# EAGLE library part LPC32X0 (library lpc32x0)
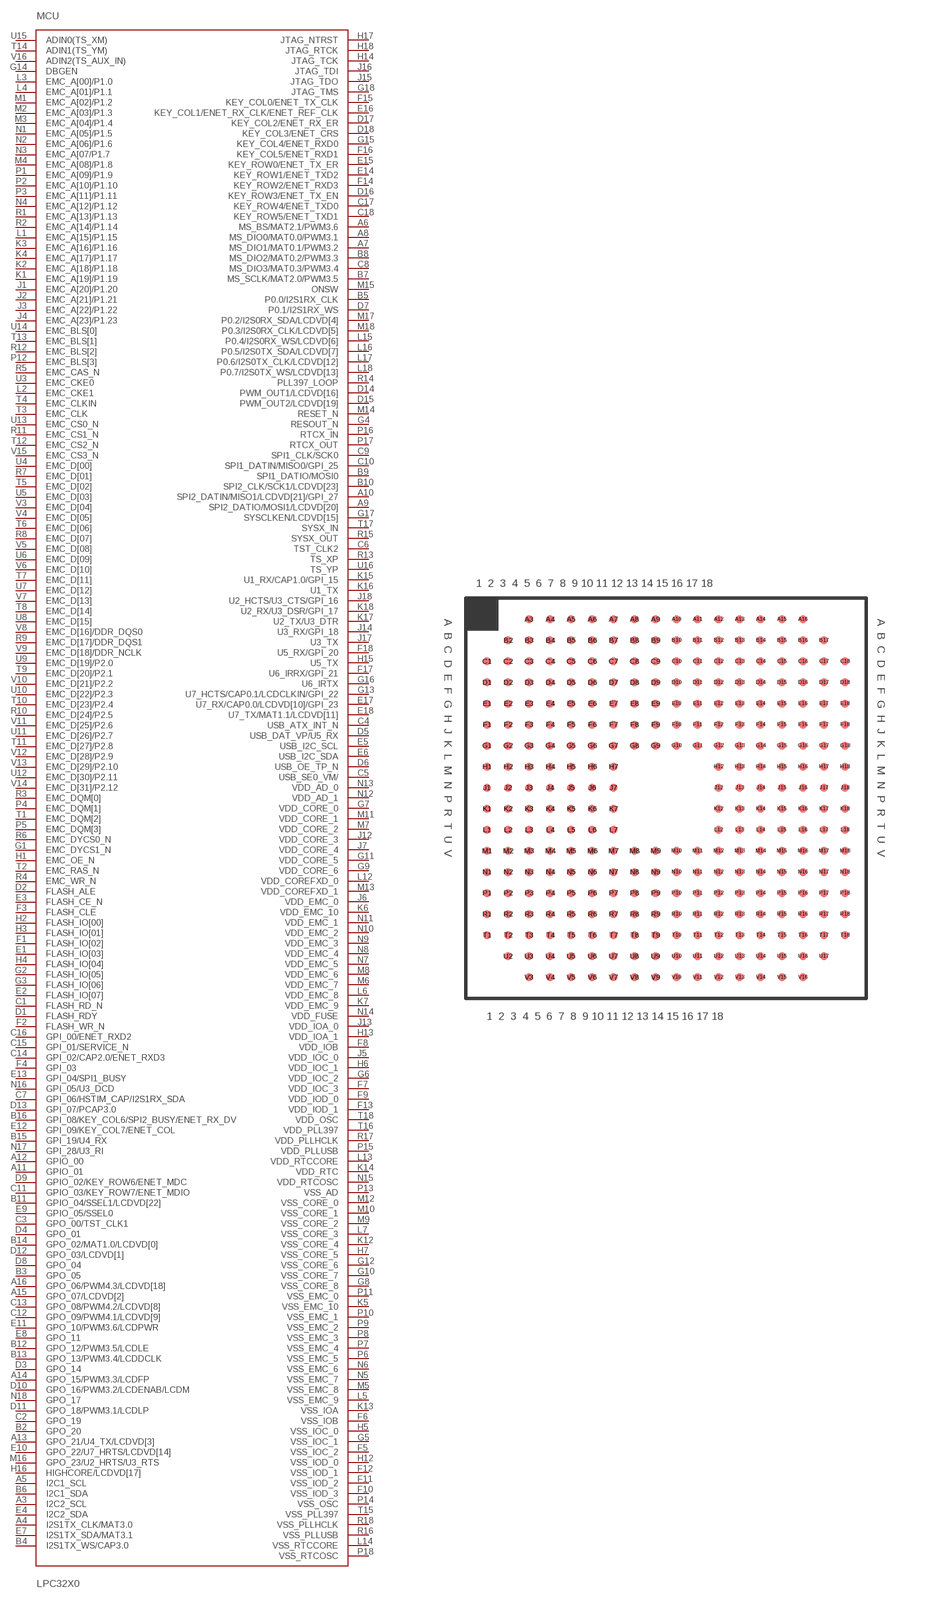
[diagram p0: symbol with the pads of SOT1048-1; footprint SOT1048-1]

Designator prefix MCU

## LPC32X0  [SOT1048-1]
A3  I2C2_SCL  nc
A4  I2S1TX_CLK/MAT3.0  nc
A5  I2C1_SCL  nc
A6  MS_BS/MAT2.1/PWM3.6  nc
A7  MS_DIO1/MAT0.1/PWM3.2  nc
A8  MS_DIO0/MAT0.0/PWM3.1  nc
A9  SPI2_DATIO/MOSI1/LCDVD[20]  nc
A10  SPI2_DATIN/MISO1/LCDVD[21]/GPI_27  nc
A11  GPIO_01  nc
A12  GPIO_00  nc
A13  GPO_21/U4_TX/LCDVD[3]  nc
A14  GPO_15/PWM3.3/LCDFP  nc
A15  GPO_07/LCDVD[2]  nc
A16  GPO_06/PWM4.3/LCDVD[18]  nc
B2  GPO_20  nc
B3  GPO_05  nc
B4  I2S1TX_WS/CAP3.0  nc
B5  P0.0/I2S1RX_CLK  nc
B6  I2C1_SDA  nc
B7  MS_SCLK/MAT2.0/PWM3.5  nc
B8  MS_DIO2/MAT0.2/PWM3.3  nc
B9  SPI1_DATIO/MOSI0  nc
B10  SPI2_CLK/SCK1/LCDVD[23]  nc
B11  GPIO_04/SSEL1/LCDVD[22]  nc
B12  GPO_12/PWM3.5/LCDLE  nc
B13  GPO_13/PWM3.4/LCDDCLK  nc
B14  GPO_02/MAT1.0/LCDVD[0]  nc
B15  GPI_19/U4_RX  nc
B16  GPI_08/KEY_COL6/SPI2_BUSY/ENET_RX_DV  nc
C1  FLASH_RD_N  nc
C2  GPO_19  nc
C3  GPO_00/TST_CLK1  nc
C4  USB_ATX_INT_N  nc
C5  USB_SE0_VM/  nc
C6  TST_CLK2  nc
C7  GPI_06/HSTIM_CAP/I2S1RX_SDA  nc
C8  MS_DIO3/MAT0.3/PWM3.4  nc
C9  SPI1_CLK/SCK0  nc
C10  SPI1_DATIN/MISO0/GPI_25  nc
C11  GPIO_03/KEY_ROW7/ENET_MDIO  nc
C12  GPO_09/PWM4.1/LCDVD[9]  nc
C13  GPO_08/PWM4.2/LCDVD[8]  nc
C14  GPI_02/CAP2.0/ENET_RXD3  nc
C15  GPI_01/SERVICE_N  nc
C16  GPI_00/ENET_RXD2  nc
C17  KEY_ROW4/ENET_TXD0  nc
C18  KEY_ROW5/ENET_TXD1  nc
D1  FLASH_RDY  nc
D2  FLASH_ALE  nc
D3  GPO_14  nc
D4  GPO_01  nc
D5  USB_DAT_VP/U5_RX  nc
D6  USB_OE_TP_N  nc
D7  P0.1/I2S1RX_WS  nc
D8  GPO_04  nc
D9  GPIO_02/KEY_ROW6/ENET_MDC  nc
D10  GPO_16/PWM3.2/LCDENAB/LCDM  nc
D11  GPO_18/PWM3.1/LCDLP  nc
D12  GPO_03/LCDVD[1]  nc
D13  GPI_07/PCAP3.0  nc
D14  PWM_OUT1/LCDVD[16]  nc
D15  PWM_OUT2/LCDVD[19]  nc
D16  KEY_ROW3/ENET_TX_EN  nc
D17  KEY_COL2/ENET_RX_ER  nc
D18  KEY_COL3/ENET_CRS  nc
E1  FLASH_IO[03]  nc
E2  FLASH_IO[07]  nc
E3  FLASH_CE_N  nc
E4  I2C2_SDA  nc
E5  USB_I2C_SCL  nc
E6  USB_I2C_SDA  nc
E7  I2S1TX_SDA/MAT3.1  nc
E8  GPO_11  nc
E9  GPIO_05/SSEL0  nc
E10  GPO_22/U7_HRTS/LCDVD[14]  nc
E11  GPO_10/PWM3.6/LCDPWR  nc
E12  GPI_09/KEY_COL7/ENET_COL  nc
E13  GPI_04/SPI1_BUSY  nc
E14  KEY_ROW1/ENET_TXD2  nc
E15  KEY_ROW0/ENET_TX_ER  nc
E16  KEY_COL1/ENET_RX_CLK/ENET_REF_CLK  nc
E17  U7_RX/CAP0.0/LCDVD[10]/GPI_23  nc
E18  U7_TX/MAT1.1/LCDVD[11]  nc
F1  FLASH_IO[02]  nc
F2  FLASH_WR_N  nc
F3  FLASH_CLE  nc
F4  GPI_03  nc
F5  VSS_IOC_2  nc
F6  VSS_IOB  nc
F7  VDD_IOC_3  nc
F8  VDD_IOB  nc
F9  VDD_IOD_0  nc
F10  VSS_IOD_3  nc
F11  VSS_IOD_2  nc
F12  VSS_IOD_1  nc
F13  VDD_IOD_1  nc
F14  KEY_ROW2/ENET_RXD3  nc
F15  KEY_COL0/ENET_TX_CLK  nc
F16  KEY_COL5/ENET_RXD1  nc
F17  U6_IRRX/GPI_21  nc
F18  U5_RX/GPI_20  nc
G1  EMC_DYCS1_N  nc
G2  FLASH_IO[05]  nc
G3  FLASH_IO[06]  nc
G4  RESOUT_N  nc
G5  VSS_IOC_1  nc
G6  VDD_IOC_2  nc
G7  VDD_CORE_0  nc
G8  VSS_CORE_8  nc
G9  VDD_CORE_6  nc
G10  VSS_CORE_7  nc
G11  VDD_CORE_5  nc
G12  VSS_CORE_6  nc
G13  U7_HCTS/CAP0.1/LCDCLKIN/GPI_22  nc
G14  DBGEN  nc
G15  KEY_COL4/ENET_RXD0  nc
G16  U6_IRTX  nc
G17  SYSCLKEN/LCDVD[15]  nc
G18  JTAG_TMS  nc
H1  EMC_OE_N  nc
H2  FLASH_IO[00]  nc
H3  FLASH_IO[01]  nc
H4  FLASH_IO[04]  nc
H5  VSS_IOC_0  nc
H6  VDD_IOC_1  nc
H7  VSS_CORE_5  nc
H12  VSS_IOD_0  nc
H13  VDD_IOA_1  nc
H14  JTAG_TCK  nc
H15  U5_TX  nc
H16  HIGHCORE/LCDVD[17]  nc
H17  JTAG_NTRST  nc
H18  JTAG_RTCK  nc
J1  EMC_A[20]/P1.20  nc
J2  EMC_A[21]/P1.21  nc
J3  EMC_A[22]/P1.22  nc
J4  EMC_A[23]/P1.23  nc
J5  VDD_IOC_0  nc
J6  VDD_EMC_0  nc
J7  VDD_CORE_4  nc
J12  VDD_CORE_3  nc
J13  VDD_IOA_0  nc
J14  U3_RX/GPI_18  nc
J15  JTAG_TDO  nc
J16  JTAG_TDI  nc
J17  U3_TX  nc
J18  U2_HCTS/U3_CTS/GPI_16  nc
K1  EMC_A[19]/P1.19  nc
K2  EMC_A[18]/P1.18  nc
K3  EMC_A[16]/P1.16  nc
K4  EMC_A[17]/P1.17  nc
K5  VSS_EMC_10  nc
K6  VDD_EMC_10  nc
K7  VDD_EMC_9  nc
K12  VSS_CORE_4  nc
K13  VSS_IOA  nc
K14  VDD_RTC  nc
K15  U1_RX/CAP1.0/GPI_15  nc
K16  U1_TX  nc
K17  U2_TX/U3_DTR  nc
K18  U2_RX/U3_DSR/GPI_17  nc
L1  EMC_A[15]/P1.15  nc
L2  EMC_CKE1  nc
L3  EMC_A[00]/P1.0  nc
L4  EMC_A[01]/P1.1  nc
L5  VSS_EMC_9  nc
L6  VDD_EMC_8  nc
L7  VSS_CORE_3  nc
L12  VDD_COREFXD_0  nc
L13  VDD_RTCCORE  nc
L14  VSS_RTCCORE  nc
L15  P0.4/I2S0RX_WS/LCDVD[6]  nc
L16  P0.5/I2S0TX_SDA/LCDVD[7]  nc
L17  P0.6/I2S0TX_CLK/LCDVD[12]  nc
L18  P0.7/I2S0TX_WS/LCDVD[13]  nc
M1  EMC_A[02]/P1.2  nc
M2  EMC_A[03]/P1.3  nc
M3  EMC_A[04]/P1.4  nc
M4  EMC_A[08]/P1.8  nc
M5  VSS_EMC_8  nc
M6  VDD_EMC_7  nc
M7  VDD_CORE_2  nc
M8  VDD_EMC_6  nc
M9  VSS_CORE_2  nc
M10  VSS_CORE_1  nc
M11  VDD_CORE_1  nc
M12  VSS_CORE_0  nc
M13  VDD_COREFXD_1  nc
M14  RESET_N  nc
M15  ONSW  nc
M16  GPO_23/U2_HRTS/U3_RTS  nc
M17  P0.2/I2S0RX_SDA/LCDVD[4]  nc
M18  P0.3/I2S0RX_CLK/LCDVD[5]  nc
N1  EMC_A[05]/P1.5  nc
N2  EMC_A[06]/P1.6  nc
N3  EMC_A[07/P1.7  nc
N4  EMC_A[12]/P1.12  nc
N5  VSS_EMC_7  nc
N6  VSS_EMC_6  nc
N7  VDD_EMC_5  nc
N8  VDD_EMC_4  nc
N9  VDD_EMC_3  nc
N10  VDD_EMC_2  nc
N11  VDD_EMC_1  nc
N12  VDD_AD_1  nc
N13  VDD_AD_0  nc
N14  VDD_FUSE  nc
N15  VDD_RTCOSC  nc
N16  GPI_05/U3_DCD  nc
N17  GPI_28/U3_RI  nc
N18  GPO_17  nc
P1  EMC_A[09]/P1.9  nc
P2  EMC_A[10]/P1.10  nc
P3  EMC_A[11]/P1.11  nc
P4  EMC_DQM[1]  nc
P5  EMC_DQM[3]  nc
P6  VSS_EMC_5  nc
P7  VSS_EMC_4  nc
P8  VSS_EMC_3  nc
P9  VSS_EMC_2  nc
P10  VSS_EMC_1  nc
P11  VSS_EMC_0  nc
P12  EMC_BLS[3]  nc
P13  VSS_AD  nc
P14  VSS_OSC  nc
P15  VDD_PLLUSB  nc
P16  RTCX_IN  nc
P17  RTCX_OUT  nc
P18  VSS_RTCOSC  nc
R1  EMC_A[13]/P1.13  nc
R2  EMC_A[14]/P1.14  nc
R3  EMC_DQM[0]  nc
R4  EMC_WR_N  nc
R5  EMC_CAS_N  nc
R6  EMC_DYCS0_N  nc
R7  EMC_D[01]  nc
R8  EMC_D[07]  nc
R9  EMC_D[17]/DDR_DQS1  nc
R10  EMC_D[24]/P2.5  nc
R11  EMC_CS1_N  nc
R12  EMC_BLS[2]  nc
R13  TS_XP  nc
R14  PLL397_LOOP  nc
R15  SYSX_OUT  nc
R16  VSS_PLLUSB  nc
R17  VDD_PLLHCLK  nc
R18  VSS_PLLHCLK  nc
T1  EMC_DQM[2]  nc
T2  EMC_RAS_N  nc
T3  EMC_CLK  nc
T4  EMC_CLKIN  nc
T5  EMC_D[02]  nc
T6  EMC_D[06]  nc
T7  EMC_D[11]  nc
T8  EMC_D[14]  nc
T9  EMC_D[20]/P2.1  nc
T10  EMC_D[23]/P2.4  nc
T11  EMC_D[27]/P2.8  nc
T12  EMC_CS2_N  nc
T13  EMC_BLS[1]  nc
T14  ADIN1(TS_YM)  nc
T15  VSS_PLL397  nc
T16  VDD_PLL397  nc
T17  SYSX_IN  nc
T18  VDD_OSC  nc
U3  EMC_CKE0  nc
U4  EMC_D[00]  nc
U5  EMC_D[03]  nc
U6  EMC_D[09]  nc
U7  EMC_D[12]  nc
U8  EMC_D[15]  nc
U9  EMC_D[19]/P2.0  nc
U10  EMC_D[22]/P2.3  nc
U11  EMC_D[26]/P2.7  nc
U12  EMC_D[30]/P2.11  nc
U13  EMC_CS0_N  nc
U14  EMC_BLS[0]  nc
U15  ADIN0(TS_XM)  nc
U16  TS_YP  nc
V3  EMC_D[04]  nc
V4  EMC_D[05]  nc
V5  EMC_D[08]  nc
V6  EMC_D[10]  nc
V7  EMC_D[13]  nc
V8  EMC_D[16]/DDR_DQS0  nc
V9  EMC_D[18]/DDR_NCLK  nc
V10  EMC_D[21]/P2.2  nc
V11  EMC_D[25]/P2.6  nc
V12  EMC_D[28]/P2.9  nc
V13  EMC_D[29]/P2.10  nc
V14  EMC_D[31]/P2.12  nc
V15  EMC_CS3_N  nc
V16  ADIN2(TS_AUX_IN)  nc

## Footprint SOT1048-1 (pad centres in mm)
smd 0.3 x 0.3: A3 -5.184,6.779; A4 -4.387,6.779; A5 -3.589,6.779; A6 -2.792,6.779; A7 -1.994,6.779; A8 -1.196,6.779; A9 -0.399,6.779; A10 0.399,6.779; A11 1.196,6.779; A12 1.994,6.779; A13 2.791,6.779; A14 3.589,6.779; A15 4.386,6.779; A16 5.184,6.779; B2 -5.982,5.982; B3 -5.184,5.982; B4 -4.387,5.982; B5 -3.589,5.982; B6 -2.792,5.982; B7 -1.994,5.982; B8 -1.196,5.982; B9 -0.399,5.982; B10 0.399,5.982; B11 1.196,5.982; B12 1.994,5.982; B13 2.791,5.982; B14 3.589,5.982; B15 4.386,5.982; B16 5.184,5.982; B17 5.982,5.982; C1 -6.779,5.184; C2 -5.982,5.184; C3 -5.184,5.184; C4 -4.387,5.184; C5 -3.589,5.184; C6 -2.792,5.184; C7 -1.994,5.184; C8 -1.196,5.184; C9 -0.399,5.184; C10 0.399,5.184; C11 1.196,5.184; C12 1.994,5.184; C13 2.791,5.184; C14 3.589,5.184; C15 4.386,5.184; C16 5.184,5.184; C17 5.982,5.184; C18 6.779,5.184; D1 -6.779,4.387; D2 -5.982,4.387; D3 -5.184,4.387; D4 -4.387,4.387; D5 -3.589,4.387; D6 -2.792,4.387; D7 -1.994,4.387; D8 -1.196,4.387; D9 -0.399,4.387; D10 0.399,4.387; D11 1.196,4.387; D12 1.994,4.387; D13 2.791,4.387; D14 3.589,4.387; D15 4.386,4.387; D16 5.184,4.387; D17 5.982,4.387; D18 6.779,4.387; E1 -6.779,3.589; E2 -5.982,3.589; E3 -5.184,3.589; E4 -4.387,3.589; E5 -3.589,3.589; E6 -2.792,3.589; E7 -1.994,3.589; E8 -1.196,3.589; E9 -0.399,3.589; E10 0.399,3.589; E11 1.196,3.589; E12 1.994,3.589; E13 2.791,3.589; E14 3.589,3.589; E15 4.386,3.589; E16 5.184,3.589; E17 5.982,3.589; E18 6.779,3.589; F1 -6.779,2.792; F2 -5.982,2.792; F3 -5.184,2.792; F4 -4.387,2.792; F5 -3.589,2.792; F6 -2.792,2.792; F7 -1.994,2.792; F8 -1.196,2.792; F9 -0.399,2.792; F10 0.399,2.792; F11 1.196,2.792; F12 1.994,2.792; F13 2.791,2.792; F14 3.589,2.792; F15 4.386,2.792; F16 5.184,2.792; F17 5.982,2.792; F18 6.779,2.792; G1 -6.779,1.994; G2 -5.982,1.994; G3 -5.184,1.994; G4 -4.387,1.994; G5 -3.589,1.994; G6 -2.792,1.994; G7 -1.994,1.994; G8 -1.196,1.994; G9 -0.399,1.994; G10 0.399,1.994; G11 1.196,1.994; G12 1.994,1.994; G13 2.791,1.994; G14 3.589,1.994; G15 4.386,1.994; G16 5.184,1.994; G17 5.982,1.994; G18 6.779,1.994; H1 -6.779,1.196; H2 -5.982,1.196; H3 -5.184,1.196; H4 -4.387,1.196; H5 -3.589,1.196; H6 -2.792,1.196; H7 -1.994,1.196; H12 1.994,1.196; H13 2.791,1.196; H14 3.589,1.196; H15 4.386,1.196; H16 5.184,1.196; H17 5.982,1.196; H18 6.779,1.196; J1 -6.779,0.399; J2 -5.982,0.399; J3 -5.184,0.399; J4 -4.387,0.399; J5 -3.589,0.399; J6 -2.792,0.399; J7 -1.994,0.399; J12 1.994,0.399; J13 2.791,0.399; J14 3.589,0.399; J15 4.386,0.399; J16 5.184,0.399; J17 5.982,0.399; J18 6.779,0.399; K1 -6.779,-0.399; K2 -5.982,-0.399; K3 -5.184,-0.399; K4 -4.387,-0.399; K5 -3.589,-0.399; K6 -2.792,-0.399; K7 -1.994,-0.399; K12 1.994,-0.399; K13 2.791,-0.399; K14 3.589,-0.399; K15 4.386,-0.399; K16 5.184,-0.399; K17 5.982,-0.399; K18 6.779,-0.399; L1 -6.779,-1.196; L2 -5.982,-1.196; L3 -5.184,-1.196; L4 -4.387,-1.196; L5 -3.589,-1.196; L6 -2.792,-1.196; L7 -1.994,-1.196; L12 1.994,-1.196; L13 2.791,-1.196; L14 3.589,-1.196; L15 4.386,-1.196; L16 5.184,-1.196; L17 5.982,-1.196; L18 6.779,-1.196; M1 -6.779,-1.994; M2 -5.982,-1.994; M3 -5.184,-1.994; M4 -4.387,-1.994; M5 -3.589,-1.994; M6 -2.792,-1.994; M7 -1.994,-1.994; M8 -1.196,-1.994; M9 -0.399,-1.994; M10 0.399,-1.994; M11 1.196,-1.994; M12 1.994,-1.994; M13 2.791,-1.994; M14 3.589,-1.994; M15 4.386,-1.994; M16 5.184,-1.994; M17 5.982,-1.994; M18 6.779,-1.994; N1 -6.779,-2.791; N2 -5.982,-2.791; N3 -5.184,-2.791; N4 -4.387,-2.791; N5 -3.589,-2.791; N6 -2.792,-2.791; N7 -1.994,-2.791; N8 -1.196,-2.791; N9 -0.399,-2.791; N10 0.399,-2.791; N11 1.196,-2.791; N12 1.994,-2.791; N13 2.791,-2.791; N14 3.589,-2.791; N15 4.386,-2.791; N16 5.184,-2.791; N17 5.982,-2.791; N18 6.779,-2.791; P1 -6.779,-3.589; P2 -5.982,-3.589; P3 -5.184,-3.589; P4 -4.387,-3.589; P5 -3.589,-3.589; P6 -2.792,-3.589; P7 -1.994,-3.589; P8 -1.196,-3.589; P9 -0.399,-3.589; P10 0.399,-3.589; P11 1.196,-3.589; P12 1.994,-3.589; P13 2.791,-3.589; P14 3.589,-3.589; P15 4.386,-3.589; P16 5.184,-3.589; P17 5.982,-3.589; P18 6.779,-3.589; R1 -6.779,-4.386; R2 -5.982,-4.386; R3 -5.184,-4.386; R4 -4.387,-4.386; R5 -3.589,-4.386; R6 -2.792,-4.386; R7 -1.994,-4.386; R8 -1.196,-4.386; R9 -0.399,-4.386; R10 0.399,-4.386; R11 1.196,-4.386; R12 1.994,-4.386; R13 2.791,-4.386; R14 3.589,-4.386; R15 4.386,-4.386; R16 5.184,-4.386; R17 5.982,-4.386; R18 6.779,-4.386; T1 -6.779,-5.184; T2 -5.982,-5.184; T3 -5.184,-5.184; T4 -4.387,-5.184; T5 -3.589,-5.184; T6 -2.792,-5.184; T7 -1.994,-5.184; T8 -1.196,-5.184; T9 -0.399,-5.184; T10 0.399,-5.184; T11 1.196,-5.184; T12 1.994,-5.184; T13 2.791,-5.184; T14 3.589,-5.184; T15 4.386,-5.184; T16 5.184,-5.184; T17 5.982,-5.184; T18 6.779,-5.184; U2 -5.982,-5.982; U3 -5.184,-5.982; U4 -4.387,-5.982; U5 -3.589,-5.982; U6 -2.792,-5.982; U7 -1.994,-5.982; U8 -1.196,-5.982; U9 -0.399,-5.982; U10 0.399,-5.982; U11 1.196,-5.982; U12 1.994,-5.982; U13 2.791,-5.982; U14 3.589,-5.982; U15 4.386,-5.982; U16 5.184,-5.982; U17 5.982,-5.982; V3 -5.184,-6.779; V4 -4.387,-6.779; V5 -3.589,-6.779; V6 -2.792,-6.779; V7 -1.994,-6.779; V8 -1.196,-6.779; V9 -0.399,-6.779; V10 0.399,-6.779; V11 1.196,-6.779; V12 1.994,-6.779; V13 2.791,-6.779; V14 3.589,-6.779; V15 4.386,-6.779; V16 5.184,-6.779